# Altium schematic symbol library kmilo17pet-NSC_Amplifier.SchLib: 1665 symbols (part 22 of 44)
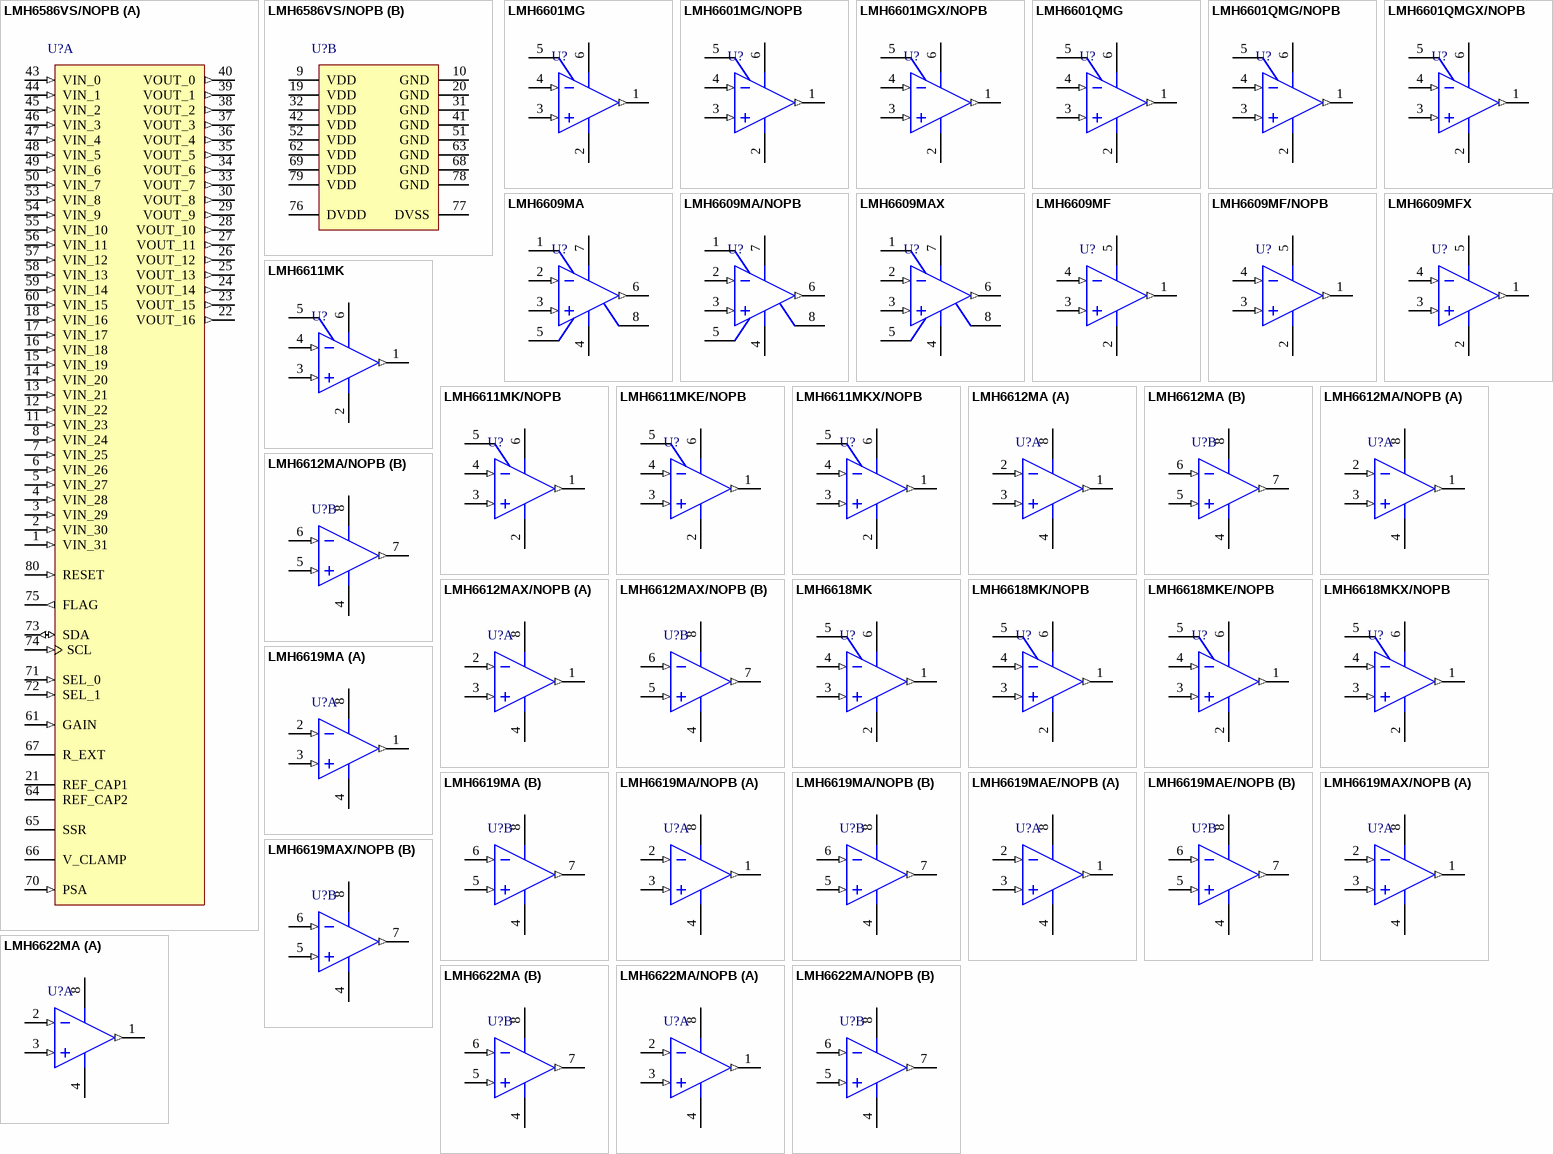
[diagram p105: symbols LMH6586VS/NOPB to LMH6622MA/NOPB]

## LMH6622MA/NOPB
designator U?
Dual Wideband, Low Noise, 160MHz, Operational Amplifiers, 8-pin Narrow SOIC, Pb-Free; PartNumber: LMH6622MA/NOPB; Manufacturer: National Semiconductor; PackageTopMarking: NSZXTT*LMH66*22MA; PowerWise: Y; DatasheetVersion: Jul-2005; PackageVersion: revM, May-2009; PackageReference: M08A; PackageDescription: SOIC Narrow, 4.9 x 3.9 x 1.45mm, 8 Lead, 1.27mm Pitch; RoHS: Y; PinCount: 8; CompType: Amplifiers; High-Reliability: Y; Code_JEDEC: MS-012-AA; Code_IPC: SOIC127P600-8; ComponentLink1Description: Manufacturer URL; ComponentLink1URL: http://www.national.com/; ComponentLink2Description: LMH6622 Datasheet; ComponentLink2URL: http://www.national.com/ds/LM/LMH6622.pdf; ComponentLink3Description: LMH6622 Web Page; ComponentLink3URL: http://www.national.com/pf/LM/LMH6622.html; ComponentLink4Description: M08A Package Page; ComponentLink4URL: http://www.national.com/packaging/folders/m08a.html
footprint M08A_N (SOIC, 8-Leads, Body 4.9x3.9mm, Pitch 1.27mm, IPC Medium Density)
footprint M08A_L (SOIC, 8-Leads, Body 4.9x3.9mm, Pitch 1.27mm, IPC High Density)
footprint M08A_M (SOIC, 8-Leads, Body 4.9x3.9mm, Pitch 1.27mm, IPC Low Density)
pins on every part: 4 V- (power), 8 V+ (power)
part A pins: 1 OUTA (out), 2 INA- (in), 3 INA+ (in)
part B pins: 5 INB+ (in), 6 INB- (in), 7 OUTB (out)

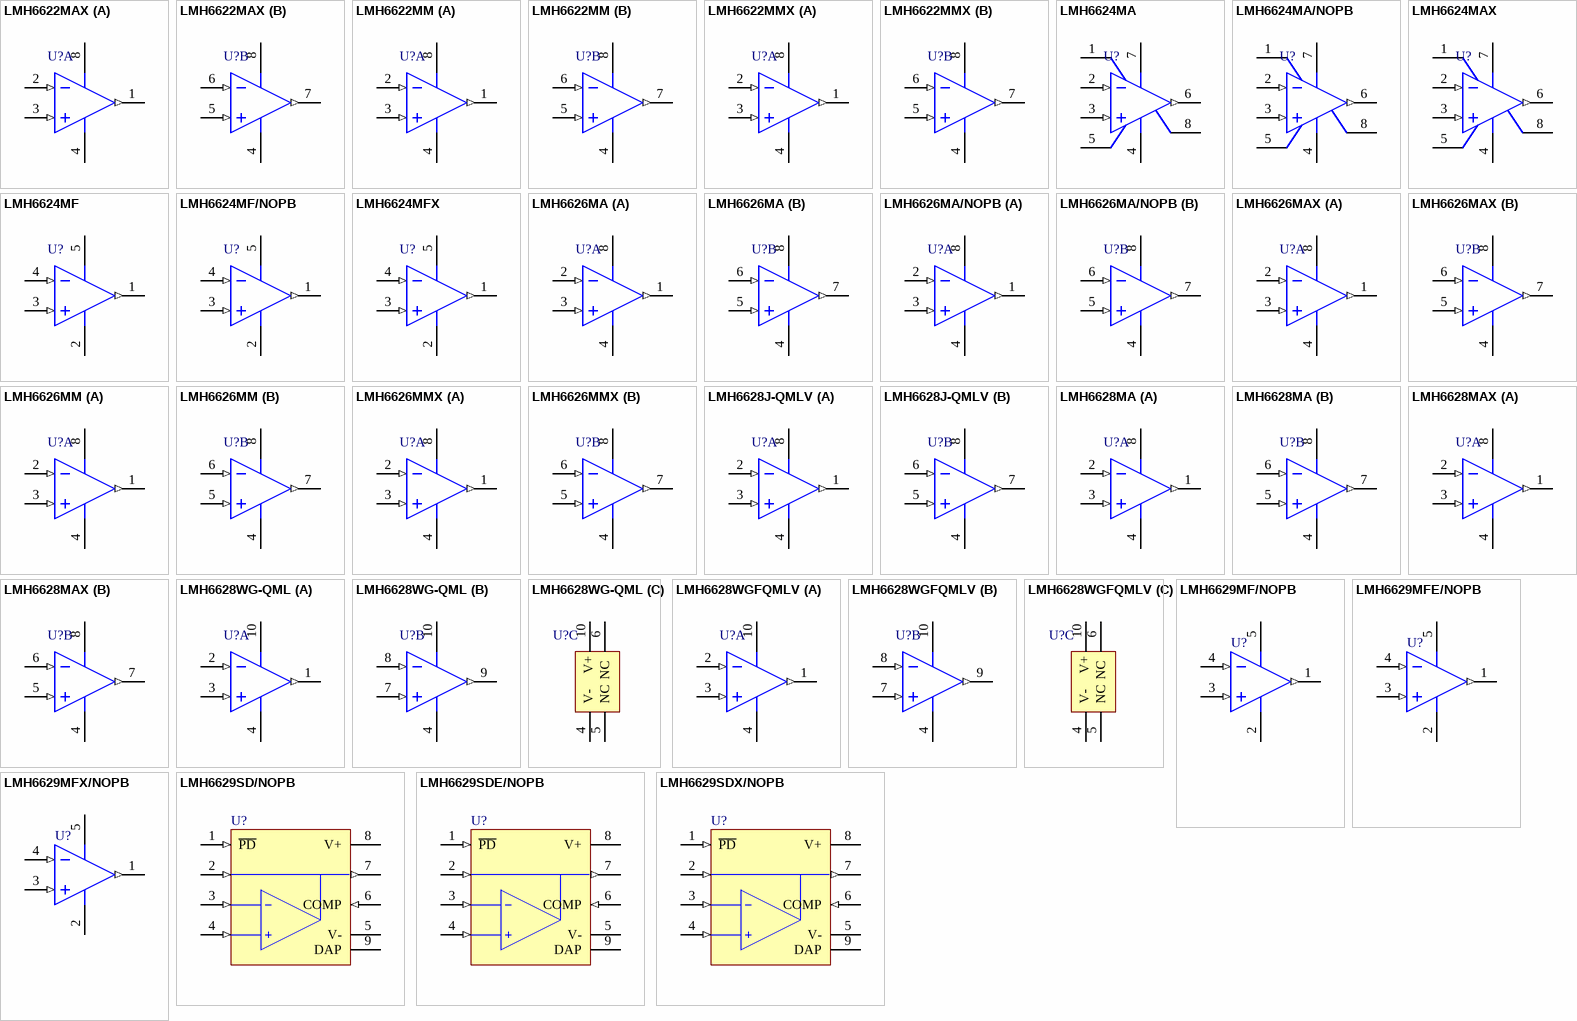
[diagram p45: symbols LMH6622MAX to LMH6629SDX/NOPB]

## LMH6622MAX
designator U?
Dual Wideband, Low Noise, 160MHz, Operational Amplifiers, 8-pin Narrow SOIC; PartNumber: LMH6622MAX; Manufacturer: National Semiconductor; PackageTopMarking: NSZXTT*LMH66*22MA; PowerWise: Y; DatasheetVersion: Jul-2005; PackageVersion: revM, May-2009; PackageReference: M08A; PackageDescription: SOIC Narrow, 4.9 x 3.9 x 1.45mm, 8 Lead, 1.27mm Pitch; RoHS: N; PinCount: 8; CompType: Amplifiers; High-Reliability: Y; Code_JEDEC: MS-012-AA; Code_IPC: SOIC127P600-8; ComponentLink1Description: Manufacturer URL; ComponentLink1URL: http://www.national.com/; ComponentLink2Description: LMH6622 Datasheet; ComponentLink2URL: http://www.national.com/ds/LM/LMH6622.pdf; ComponentLink3Description: LMH6622 Web Page; ComponentLink3URL: http://www.national.com/pf/LM/LMH6622.html; ComponentLink4Description: M08A Package Page; ComponentLink4URL: http://www.national.com/packaging/folders/m08a.html
footprint M08A_N (SOIC, 8-Leads, Body 4.9x3.9mm, Pitch 1.27mm, IPC Medium Density)
footprint M08A_L (SOIC, 8-Leads, Body 4.9x3.9mm, Pitch 1.27mm, IPC High Density)
footprint M08A_M (SOIC, 8-Leads, Body 4.9x3.9mm, Pitch 1.27mm, IPC Low Density)
pins on every part: 4 V- (power), 8 V+ (power)
part A pins: 1 OUTA (out), 2 INA- (in), 3 INA+ (in)
part B pins: 5 INB+ (in), 6 INB- (in), 7 OUTB (out)

## LMH6622MM
designator U?
Dual Wideband, Low Noise, 160MHz, Operational Amplifiers, 8-pin Mini SOIC; PartNumber: LMH6622MM; Manufacturer: National Semiconductor; PackageTopMarking: ZXTT*A80A; PowerWise: Y; DatasheetVersion: Jul-2005; PackageVersion: revF, Apr-2008; PackageReference: MUA08A; PackageDescription: MINI SOIC, .118 x .118 x .034in, 8 Lead, .0256in Pitch; RoHS: N; PinCount: 8; CompType: Amplifiers; High-Reliability: Y; Code_JEDEC: MO-187-AA; ComponentLink1Description: Manufacturer URL; ComponentLink1URL: http://www.national.com/; ComponentLink2Description: LMH6622 Datasheet; ComponentLink2URL: http://www.national.com/ds/LM/LMH6622.pdf; ComponentLink3Description: LMH6622 Web Page; ComponentLink3URL: http://www.national.com/pf/LM/LMH6622.html; ComponentLink4Description: MUA08A Package Page; ComponentLink4URL: http://www.national.com/packaging/folders/mua08a.html
footprint MUA08A_N (TSOP, 8-Leads, Body 3x3mm, Pitch 0.65mm, IPC Medium Density)
footprint MUA08A_L (TSOP, 8-Leads, Body 3x3mm, Pitch 0.65mm, IPC High Density)
footprint MUA08A_M (TSOP, 8-Leads, Body 3x3mm, Pitch 0.65mm, IPC Low Density)
pins on every part: 4 V- (power), 8 V+ (power)
part A pins: 1 OUTA (out), 2 INA- (in), 3 INA+ (in)
part B pins: 5 INB+ (in), 6 INB- (in), 7 OUTB (out)

## LMH6622MMX
designator U?
Dual Wideband, Low Noise, 160MHz, Operational Amplifiers, 8-pin Mini SOIC; PartNumber: LMH6622MMX; Manufacturer: National Semiconductor; PackageTopMarking: ZXTT*A80A; PowerWise: Y; DatasheetVersion: Jul-2005; PackageVersion: revF, Apr-2008; PackageReference: MUA08A; PackageDescription: MINI SOIC, .118 x .118 x .034in, 8 Lead, .0256in Pitch; RoHS: N; PinCount: 8; CompType: Amplifiers; High-Reliability: Y; Code_JEDEC: MO-187-AA; ComponentLink1Description: Manufacturer URL; ComponentLink1URL: http://www.national.com/; ComponentLink2Description: LMH6622 Datasheet; ComponentLink2URL: http://www.national.com/ds/LM/LMH6622.pdf; ComponentLink3Description: LMH6622 Web Page; ComponentLink3URL: http://www.national.com/pf/LM/LMH6622.html; ComponentLink4Description: MUA08A Package Page; ComponentLink4URL: http://www.national.com/packaging/folders/mua08a.html
footprint MUA08A_N (TSOP, 8-Leads, Body 3x3mm, Pitch 0.65mm, IPC Medium Density)
footprint MUA08A_L (TSOP, 8-Leads, Body 3x3mm, Pitch 0.65mm, IPC High Density)
footprint MUA08A_M (TSOP, 8-Leads, Body 3x3mm, Pitch 0.65mm, IPC Low Density)
pins on every part: 4 V- (power), 8 V+ (power)
part A pins: 1 OUTA (out), 2 INA- (in), 3 INA+ (in)
part B pins: 5 INB+ (in), 6 INB- (in), 7 OUTB (out)

## LMH6624MA
designator U?
Single Ultra Low Noise Wideband Operational Amplifier, 8-pin Narrow SOIC; PartNumber: LMH6624MA; Manufacturer: National Semiconductor; PackageTopMarking: NSZXTT*LMH66*24MA; PowerWise: Y; CompType: Amplifiers; DatasheetVersion: Sep-2005; PackageVersion: revM, May-2009; PackageReference: M08A; PackageDescription: SOIC Narrow, 4.9 x 3.9 x 1.45mm, 8 Lead, 1.27mm Pitch; RoHS: N; PinCount: 8; High-Reliability: Y; Code_JEDEC: MS-012-AA; Code_IPC: SOIC127P600-8; ComponentLink1Description: Manufacturer URL; ComponentLink1URL: http://www.national.com/; ComponentLink2Description: LMH6624 Datasheet; ComponentLink2URL: http://www.national.com/ds/LM/LMH6624.pdf; ComponentLink3Description: LMH6624 Web Page; ComponentLink3URL: http://www.national.com/pf/LM/LMH6624.html; ComponentLink4Description: M08A Package Page; ComponentLink4URL: http://www.national.com/packaging/folders/m08a.html
footprint M08A_N (SOIC, 8-Leads, Body 4.9x3.9mm, Pitch 1.27mm, IPC Medium Density)
footprint M08A_L (SOIC, 8-Leads, Body 4.9x3.9mm, Pitch 1.27mm, IPC High Density)
footprint M08A_M (SOIC, 8-Leads, Body 4.9x3.9mm, Pitch 1.27mm, IPC Low Density)
pins: 1 NC, 2 IN- (in), 3 IN+ (in), 4 V- (power), 5 NC, 6 OUT (out), 7 V+ (power), 8 NC

## LMH6624MA/NOPB
designator U?
Single/ Dual Ultra Low Noise Wideband Operational Amplifier, 8-pin Narrow SOIC, Pb-Free; PartNumber: LMH6624MA/NOPB; Manufacturer: National Semiconductor; PackageTopMarking: NSZXTT*LMH66*24MA; PowerWise: Y; CompType: Amplifiers; DatasheetVersion: Sep-2005; PackageVersion: revM, May-2009; PackageReference: M08A; PackageDescription: SOIC Narrow, 4.9 x 3.9 x 1.45mm, 8 Lead, 1.27mm Pitch; RoHS: Y; PinCount: 8; High-Reliability: Y; Code_JEDEC: MS-012-AA; Code_IPC: SOIC127P600-8; ComponentLink1Description: Manufacturer URL; ComponentLink1URL: http://www.national.com/; ComponentLink2Description: LMH6624 Datasheet; ComponentLink2URL: http://www.national.com/ds/LM/LMH6624.pdf; ComponentLink3Description: LMH6624 Web Page; ComponentLink3URL: http://www.national.com/pf/LM/LMH6624.html; ComponentLink4Description: M08A Package Page; ComponentLink4URL: http://www.national.com/packaging/folders/m08a.html
footprint M08A_N (SOIC, 8-Leads, Body 4.9x3.9mm, Pitch 1.27mm, IPC Medium Density)
footprint M08A_L (SOIC, 8-Leads, Body 4.9x3.9mm, Pitch 1.27mm, IPC High Density)
footprint M08A_M (SOIC, 8-Leads, Body 4.9x3.9mm, Pitch 1.27mm, IPC Low Density)
pins: 1 NC, 2 IN- (in), 3 IN+ (in), 4 V- (power), 5 NC, 6 OUT (out), 7 V+ (power), 8 NC

## LMH6624MAX
designator U?
Single/ Dual Ultra Low Noise Wideband Operational Amplifier, 8-pin Narrow SOIC; PartNumber: LMH6624MAX; Manufacturer: National Semiconductor; PackageTopMarking: NSZXTT*LMH66*24MA; PowerWise: Y; CompType: Amplifiers; DatasheetVersion: Sep-2005; PackageVersion: revM, May-2009; PackageReference: M08A; PackageDescription: SOIC Narrow, 4.9 x 3.9 x 1.45mm, 8 Lead, 1.27mm Pitch; RoHS: N; PinCount: 8; High-Reliability: Y; Code_JEDEC: MS-012-AA; Code_IPC: SOIC127P600-8; ComponentLink1Description: Manufacturer URL; ComponentLink1URL: http://www.national.com/; ComponentLink2Description: LMH6624 Datasheet; ComponentLink2URL: http://www.national.com/ds/LM/LMH6624.pdf; ComponentLink3Description: LMH6624 Web Page; ComponentLink3URL: http://www.national.com/pf/LM/LMH6624.html; ComponentLink4Description: M08A Package Page; ComponentLink4URL: http://www.national.com/packaging/folders/m08a.html
footprint M08A_N (SOIC, 8-Leads, Body 4.9x3.9mm, Pitch 1.27mm, IPC Medium Density)
footprint M08A_L (SOIC, 8-Leads, Body 4.9x3.9mm, Pitch 1.27mm, IPC High Density)
footprint M08A_M (SOIC, 8-Leads, Body 4.9x3.9mm, Pitch 1.27mm, IPC Low Density)
pins: 1 NC, 2 IN- (in), 3 IN+ (in), 4 V- (power), 5 NC, 6 OUT (out), 7 V+ (power), 8 NC

## LMH6624MF
designator U?
Single Ultra Low Noise Wideband Operational Amplifier, 5-pin SOT-23; PartNumber: LMH6624MF; Manufacturer: National Semiconductor; PackageTopMarking: A94A*XTT; PowerWise: Y; CompType: Amplifiers; DatasheetVersion: Sep-2005; PackageVersion: revD, Aug-2008; PackageReference: MF05A; PackageDescription: Molded SOT-23, .115 x .063 x .040 in Body, 5 Lead, .0375 in Pitch; RoHS: N; PinCount: 5; High-Reliability: Y; ComponentLink1Description: Manufacturer URL; ComponentLink1URL: http://www.national.com/; ComponentLink2Description: LMH6624 Datasheet; ComponentLink2URL: http://www.national.com/ds/LM/LMH6624.pdf; ComponentLink3Description: LMH6624 Web Page; ComponentLink3URL: http://www.national.com/pf/LM/LMH6624.html; ComponentLink4Description: MF05A Package Page; ComponentLink4URL: http://www.national.com/packaging/folders/mf05a.html
footprint MF05A_N (SOT23, 5-Leads, Body 2.9x1.6mm, Pitch 0.95mm, Lead Span 2.8mm, IPC Medium Density)
footprint MF05A_L (SOT23, 5-Leads, Body 2.9x1.6mm, Pitch 0.95mm, Lead Span 2.8mm, IPC High Density)
footprint MF05A_M (SOT23, 5-Leads, Body 2.9x1.6mm, Pitch 0.95mm, Lead Span 2.8mm, IPC Low Density)
pins: 1 OUT (out), 2 V- (power), 3 IN+ (in), 4 IN- (in), 5 V+ (power)

## LMH6624MF/NOPB
designator U?
Single/ Dual Ultra Low Noise Wideband Operational Amplifier, 5-pin SOT-23, Pb-Free; PartNumber: LMH6624MF/NOPB; Manufacturer: National Semiconductor; PackageTopMarking: A94A*XTT; PowerWise: Y; CompType: Amplifiers; DatasheetVersion: Sep-2005; PackageVersion: revD, Aug-2008; PackageReference: MF05A; PackageDescription: Molded SOT-23, .115 x .063 x .040 in Body, 5 Lead, .0375 in Pitch; RoHS: Y; PinCount: 5; High-Reliability: Y; ComponentLink1Description: Manufacturer URL; ComponentLink1URL: http://www.national.com/; ComponentLink2Description: LMH6624 Datasheet; ComponentLink2URL: http://www.national.com/ds/LM/LMH6624.pdf; ComponentLink3Description: LMH6624 Web Page; ComponentLink3URL: http://www.national.com/pf/LM/LMH6624.html; ComponentLink4Description: MF05A Package Page; ComponentLink4URL: http://www.national.com/packaging/folders/mf05a.html
footprint MF05A_N (SOT23, 5-Leads, Body 2.9x1.6mm, Pitch 0.95mm, Lead Span 2.8mm, IPC Medium Density)
footprint MF05A_L (SOT23, 5-Leads, Body 2.9x1.6mm, Pitch 0.95mm, Lead Span 2.8mm, IPC High Density)
footprint MF05A_M (SOT23, 5-Leads, Body 2.9x1.6mm, Pitch 0.95mm, Lead Span 2.8mm, IPC Low Density)
pins: 1 OUT (out), 2 V- (power), 3 IN+ (in), 4 IN- (in), 5 V+ (power)

## LMH6624MFX
designator U?
Single/ Dual Ultra Low Noise Wideband Operational Amplifier, 5-pin SOT-23; PartNumber: LMH6624MFX; Manufacturer: National Semiconductor; PackageTopMarking: A94A*XTT; PowerWise: Y; CompType: Amplifiers; DatasheetVersion: Sep-2005; PackageVersion: revD, Aug-2008; PackageReference: MF05A; PackageDescription: Molded SOT-23, .115 x .063 x .040 in Body, 5 Lead, .0375 in Pitch; RoHS: N; PinCount: 5; High-Reliability: Y; ComponentLink1Description: Manufacturer URL; ComponentLink1URL: http://www.national.com/; ComponentLink2Description: LMH6624 Datasheet; ComponentLink2URL: http://www.national.com/ds/LM/LMH6624.pdf; ComponentLink3Description: LMH6624 Web Page; ComponentLink3URL: http://www.national.com/pf/LM/LMH6624.html; ComponentLink4Description: MF05A Package Page; ComponentLink4URL: http://www.national.com/packaging/folders/mf05a.html
footprint MF05A_N (SOT23, 5-Leads, Body 2.9x1.6mm, Pitch 0.95mm, Lead Span 2.8mm, IPC Medium Density)
footprint MF05A_L (SOT23, 5-Leads, Body 2.9x1.6mm, Pitch 0.95mm, Lead Span 2.8mm, IPC High Density)
footprint MF05A_M (SOT23, 5-Leads, Body 2.9x1.6mm, Pitch 0.95mm, Lead Span 2.8mm, IPC Low Density)
pins: 1 OUT (out), 2 V- (power), 3 IN+ (in), 4 IN- (in), 5 V+ (power)

## LMH6626MA
designator U?
Dual Ultra Low Noise Wideband Operational Amplifier, 8-pin Narrow SOIC; PartNumber: LMH6626MA; Manufacturer: National Semiconductor; PackageTopMarking: NSZXTT*LMH66*26MA; PowerWise: Y; CompType: Amplifiers; DatasheetVersion: Sep-2005; PackageVersion: revM, May-2009; PackageReference: M08A; PackageDescription: SOIC Narrow, 4.9 x 3.9 x 1.45mm, 8 Lead, 1.27mm Pitch; RoHS: N; PinCount: 8; High-Reliability: Y; Code_JEDEC: MS-012-AA; Code_IPC: SOIC127P600-8; ComponentLink1Description: Manufacturer URL; ComponentLink1URL: http://www.national.com/; ComponentLink2Description: LMH6626 Datasheet; ComponentLink2URL: http://www.national.com/ds/LM/LMH6626.pdf; ComponentLink3Description: LMH6626 Web Page; ComponentLink3URL: http://www.national.com/pf/LM/LMH6626.html; ComponentLink4Description: M08A Package Page; ComponentLink4URL: http://www.national.com/packaging/folders/m08a.html
footprint M08A_N (SOIC, 8-Leads, Body 4.9x3.9mm, Pitch 1.27mm, IPC Medium Density)
footprint M08A_L (SOIC, 8-Leads, Body 4.9x3.9mm, Pitch 1.27mm, IPC High Density)
footprint M08A_M (SOIC, 8-Leads, Body 4.9x3.9mm, Pitch 1.27mm, IPC Low Density)
pins on every part: 4 V- (power), 8 V+ (power)
part A pins: 1 OUTA (out), 2 INA- (in), 3 INA+ (in)
part B pins: 5 INB+ (in), 6 INB- (in), 7 OUTB (out)

## LMH6626MA/NOPB
designator U?
Single/ Dual Ultra Low Noise Wideband Operational Amplifier, 8-pin Narrow SOIC, Pb-Free; PartNumber: LMH6626MA/NOPB; Manufacturer: National Semiconductor; PackageTopMarking: NSZXTT*LMH66*26MA; PowerWise: Y; CompType: Amplifiers; DatasheetVersion: Sep-2005; PackageVersion: revM, May-2009; PackageReference: M08A; PackageDescription: SOIC Narrow, 4.9 x 3.9 x 1.45mm, 8 Lead, 1.27mm Pitch; RoHS: Y; PinCount: 8; High-Reliability: Y; Code_JEDEC: MS-012-AA; Code_IPC: SOIC127P600-8; ComponentLink1Description: Manufacturer URL; ComponentLink1URL: http://www.national.com/; ComponentLink2Description: LMH6626 Datasheet; ComponentLink2URL: http://www.national.com/ds/LM/LMH6626.pdf; ComponentLink3Description: LMH6626 Web Page; ComponentLink3URL: http://www.national.com/pf/LM/LMH6626.html; ComponentLink4Description: M08A Package Page; ComponentLink4URL: http://www.national.com/packaging/folders/m08a.html
footprint M08A_N (SOIC, 8-Leads, Body 4.9x3.9mm, Pitch 1.27mm, IPC Medium Density)
footprint M08A_L (SOIC, 8-Leads, Body 4.9x3.9mm, Pitch 1.27mm, IPC High Density)
footprint M08A_M (SOIC, 8-Leads, Body 4.9x3.9mm, Pitch 1.27mm, IPC Low Density)
pins on every part: 4 V- (power), 8 V+ (power)
part A pins: 1 OUTA (out), 2 INA- (in), 3 INA+ (in)
part B pins: 5 INB+ (in), 6 INB- (in), 7 OUTB (out)

## LMH6626MAX
designator U?
Single/ Dual Ultra Low Noise Wideband Operational Amplifier, 8-pin Narrow SOIC; PartNumber: LMH6626MAX; Manufacturer: National Semiconductor; PackageTopMarking: NSZXTT*LMH66*26MA; PowerWise: Y; CompType: Amplifiers; DatasheetVersion: Sep-2005; PackageVersion: revM, May-2009; PackageReference: M08A; PackageDescription: SOIC Narrow, 4.9 x 3.9 x 1.45mm, 8 Lead, 1.27mm Pitch; RoHS: N; PinCount: 8; High-Reliability: Y; Code_JEDEC: MS-012-AA; Code_IPC: SOIC127P600-8; ComponentLink1Description: Manufacturer URL; ComponentLink1URL: http://www.national.com/; ComponentLink2Description: LMH6626 Datasheet; ComponentLink2URL: http://www.national.com/ds/LM/LMH6626.pdf; ComponentLink3Description: LMH6626 Web Page; ComponentLink3URL: http://www.national.com/pf/LM/LMH6626.html; ComponentLink4Description: M08A Package Page; ComponentLink4URL: http://www.national.com/packaging/folders/m08a.html
footprint M08A_N (SOIC, 8-Leads, Body 4.9x3.9mm, Pitch 1.27mm, IPC Medium Density)
footprint M08A_L (SOIC, 8-Leads, Body 4.9x3.9mm, Pitch 1.27mm, IPC High Density)
footprint M08A_M (SOIC, 8-Leads, Body 4.9x3.9mm, Pitch 1.27mm, IPC Low Density)
pins on every part: 4 V- (power), 8 V+ (power)
part A pins: 1 OUTA (out), 2 INA- (in), 3 INA+ (in)
part B pins: 5 INB+ (in), 6 INB- (in), 7 OUTB (out)

## LMH6626MM
designator U?
Dual Ultra Low Noise Wideband Operational Amplifier, 8-pin Mini SOIC; PartNumber: LMH6626MM; Manufacturer: National Semiconductor; PackageTopMarking: ZXTT*A98A; PowerWise: Y; CompType: Amplifiers; DatasheetVersion: Sep-2005; PackageVersion: revF, Apr-2008; PackageReference: MUA08A; PackageDescription: MINI SOIC, .118 x .118 x .034in, 8 Lead, .0256in Pitch; RoHS: N; PinCount: 8; High-Reliability: Y; Code_JEDEC: MO-187-AA; ComponentLink1Description: Manufacturer URL; ComponentLink1URL: http://www.national.com/; ComponentLink2Description: LMH6626 Datasheet; ComponentLink2URL: http://www.national.com/ds/LM/LMH6626.pdf; ComponentLink3Description: LMH6626 Web Page; ComponentLink3URL: http://www.national.com/pf/LM/LMH6626.html; ComponentLink4Description: MUA08A Package Page; ComponentLink4URL: http://www.national.com/packaging/folders/mua08a.html
footprint MUA08A_N (TSOP, 8-Leads, Body 3x3mm, Pitch 0.65mm, IPC Medium Density)
footprint MUA08A_L (TSOP, 8-Leads, Body 3x3mm, Pitch 0.65mm, IPC High Density)
footprint MUA08A_M (TSOP, 8-Leads, Body 3x3mm, Pitch 0.65mm, IPC Low Density)
pins on every part: 4 V- (power), 8 V+ (power)
part A pins: 1 OUTA (out), 2 INA- (in), 3 INA+ (in)
part B pins: 5 INB+ (in), 6 INB- (in), 7 OUTB (out)

## LMH6626MMX
designator U?
Single/ Dual Ultra Low Noise Wideband Operational Amplifier, 8-pin Mini SOIC; PartNumber: LMH6626MMX; Manufacturer: National Semiconductor; PackageTopMarking: ZXTT*A98A; PowerWise: Y; CompType: Amplifiers; DatasheetVersion: Sep-2005; PackageVersion: revF, Apr-2008; PackageReference: MUA08A; PackageDescription: MINI SOIC, .118 x .118 x .034in, 8 Lead, .0256in Pitch; RoHS: N; PinCount: 8; High-Reliability: Y; Code_JEDEC: MO-187-AA; ComponentLink1Description: Manufacturer URL; ComponentLink1URL: http://www.national.com/; ComponentLink2Description: LMH6626 Datasheet; ComponentLink2URL: http://www.national.com/ds/LM/LMH6626.pdf; ComponentLink3Description: LMH6626 Web Page; ComponentLink3URL: http://www.national.com/pf/LM/LMH6626.html; ComponentLink4Description: MUA08A Package Page; ComponentLink4URL: http://www.national.com/packaging/folders/mua08a.html
footprint MUA08A_N (TSOP, 8-Leads, Body 3x3mm, Pitch 0.65mm, IPC Medium Density)
footprint MUA08A_L (TSOP, 8-Leads, Body 3x3mm, Pitch 0.65mm, IPC High Density)
footprint MUA08A_M (TSOP, 8-Leads, Body 3x3mm, Pitch 0.65mm, IPC Low Density)
pins on every part: 4 V- (power), 8 V+ (power)
part A pins: 1 OUTA (out), 2 INA- (in), 3 INA+ (in)
part B pins: 5 INB+ (in), 6 INB- (in), 7 OUTB (out)

## LMH6628J-QMLV
designator U?
Dual Wideband, Low Noise, Voltage Feedback Op Amp, 8-pin CerDIP; PartNumber: LMH6628J-QMLV; Manufacturer: National Semiconductor; PackageTopMarking: NSZSSXXYYA*LMH6628J-*QV Q 5962-*0254501VPA; PowerWise: Y; CompType: Amplifiers; DatasheetVersion: May-2005; PackageVersion: revM, Jul-2002; PackageReference: J08A; PackageDescription: Cerdip, .400 x .310in Body, 8 Lead, .300in Centers, .100in Pitch; RoHS: N; PinCount: 8; High-Reliability: Y; ComponentLink1Description: Manufacturer URL; ComponentLink1URL: http://www.national.com/; ComponentLink2Description: LMH6628 Datasheet; ComponentLink2URL: http://www.national.com/ds/LM/LMH6628.pdf; ComponentLink3Description: LMH6628 Web Page; ComponentLink3URL: http://www.national.com/pf/LM/LMH6628.html; ComponentLink4Description: J08A Package Page; ComponentLink4URL: http://www.national.com/packaging/folders/j08a.html
footprint J08A (DIP, 8-Leads, Row Spacing 7.62mm, Pitch 2.54mm, Body 9.78x6.73mm)
pins on every part: 4 V- (power), 8 V+ (power)
part A pins: 1 OUT1 (out), 2 IN1- (in), 3 IN1+ (in)
part B pins: 5 IN2+ (in), 6 IN2- (in), 7 OUT2 (out)

## LMH6628MA
designator U?
Dual Wideband, Low Noise, Voltage Feedback Op Amp, 8-pin Narrow SOIC; PartNumber: LMH6628MA; Manufacturer: National Semiconductor; PackageTopMarking: NSZXTT*LMH66*28MA; PowerWise: Y; CompType: Amplifiers; DatasheetVersion: May-2005; PackageVersion: revM, May-2009; PackageReference: M08A; PackageDescription: SOIC Narrow, 4.9 x 3.9 x 1.45mm, 8 Lead, 1.27mm Pitch; RoHS: N; PinCount: 8; High-Reliability: Y; Code_JEDEC: MS-012-AA; Code_IPC: SOIC127P600-8; ComponentLink1Description: Manufacturer URL; ComponentLink1URL: http://www.national.com/; ComponentLink2Description: LMH6628 Datasheet; ComponentLink2URL: http://www.national.com/ds/LM/LMH6628.pdf; ComponentLink3Description: LMH6628 Web Page; ComponentLink3URL: http://www.national.com/pf/LM/LMH6628.html; ComponentLink4Description: M08A Package Page; ComponentLink4URL: http://www.national.com/packaging/folders/m08a.html
footprint M08A_N (SOIC, 8-Leads, Body 4.9x3.9mm, Pitch 1.27mm, IPC Medium Density)
footprint M08A_L (SOIC, 8-Leads, Body 4.9x3.9mm, Pitch 1.27mm, IPC High Density)
footprint M08A_M (SOIC, 8-Leads, Body 4.9x3.9mm, Pitch 1.27mm, IPC Low Density)
pins on every part: 4 V- (power), 8 V+ (power)
part A pins: 1 OUT1 (out), 2 IN1- (in), 3 IN1+ (in)
part B pins: 5 IN2+ (in), 6 IN2- (in), 7 OUT2 (out)

## LMH6628MAX
designator U?
Dual Wideband, Low Noise, Voltage Feedback Op Amp, 8-pin Narrow SOIC; PartNumber: LMH6628MAX; Manufacturer: National Semiconductor; PackageTopMarking: NSZXTT*LMH66*28MA; PowerWise: Y; CompType: Amplifiers; DatasheetVersion: May-2005; PackageVersion: revM, May-2009; PackageReference: M08A; PackageDescription: SOIC Narrow, 4.9 x 3.9 x 1.45mm, 8 Lead, 1.27mm Pitch; RoHS: N; PinCount: 8; High-Reliability: Y; Code_JEDEC: MS-012-AA; Code_IPC: SOIC127P600-8; ComponentLink1Description: Manufacturer URL; ComponentLink1URL: http://www.national.com/; ComponentLink2Description: LMH6628 Datasheet; ComponentLink2URL: http://www.national.com/ds/LM/LMH6628.pdf; ComponentLink3Description: LMH6628 Web Page; ComponentLink3URL: http://www.national.com/pf/LM/LMH6628.html; ComponentLink4Description: M08A Package Page; ComponentLink4URL: http://www.national.com/packaging/folders/m08a.html
footprint M08A_N (SOIC, 8-Leads, Body 4.9x3.9mm, Pitch 1.27mm, IPC Medium Density)
footprint M08A_L (SOIC, 8-Leads, Body 4.9x3.9mm, Pitch 1.27mm, IPC High Density)
footprint M08A_M (SOIC, 8-Leads, Body 4.9x3.9mm, Pitch 1.27mm, IPC Low Density)
pins on every part: 4 V- (power), 8 V+ (power)
part A pins: 1 OUT1 (out), 2 IN1- (in), 3 IN1+ (in)
part B pins: 5 IN2+ (in), 6 IN2- (in), 7 OUT2 (out)

## LMH6628WG-QML
designator U?
Dual Wideband, Low Noise, Voltage Feedback Op Amp, 10-pin CerPACK; PartNumber: LMH6628WG-QML; Manufacturer: National Semiconductor; PackageTopMarking: NS5962-02*54501MZA*LMH6628*WG-QML Q*ZSSXXYYA; PowerWise: Y; CompType: Amplifiers; DatasheetVersion: May-2005; PackageVersion: revF, Oct-2008; PackageReference: WG10A; PackageDescription: Cerpack, .270 x .241 x .070in, 10 Lead, .050in Pitch, Gull Wing; RoHS: N; PinCount: 10; High-Reliability: Y; ComponentLink1Description: Manufacturer URL; ComponentLink1URL: http://www.national.com/; ComponentLink2Description: LMH6628 Datasheet; ComponentLink2URL: http://www.national.com/ds/LM/LMH6628QML.pdf; ComponentLink3Description: LMH6628 Web Page; ComponentLink3URL: http://www.national.com/pf/LM/LMH6628.html; ComponentLink4Description: WG10A Package Page; ComponentLink4URL: http://www.national.com/packaging/folders/wg10a.html
footprint WG10A_N (CERPACK, 10-Leads, Body 6.9x6.3mm, Pitch 1.27mm, IPC Medium Density)
footprint WG10A_L (CERPACK, 10-Leads, Body 6.9x6.3mm, Pitch 1.27mm, IPC High Density)
footprint WG10A_M (CERPACK, 10-Leads, Body 6.9x6.3mm, Pitch 1.27mm, IPC Low Density)
pins on every part: 4 V- (power), 10 V+ (power)
part A pins: 1 OUTA (out), 2 INA- (in), 3 INA+ (in)
part B pins: 7 INB+ (in), 8 INB- (in), 9 OUTB (out)
part C pins: 5 NC, 6 NC

## LMH6628WGFQMLV
designator U?
Dual Wideband, Low Noise, Voltage Feedback Op Amp, 10-pin CerPACK; PartNumber: LMH6628WGFQMLV; Manufacturer: National Semiconductor; PackageTopMarking: NS5962F02*54501VZA*LMH6628*WGFQV Q*ZSSXXYYA; PowerWise: Y; CompType: Amplifiers; DatasheetVersion: May-2005; PackageVersion: revF, Oct-2008; PackageReference: WG10A; PackageDescription: Cerpack, .270 x .241 x .070in, 10 Lead, .050in Pitch, Gull Wing; RoHS: N; PinCount: 10; High-Reliability: Y; ComponentLink1Description: Manufacturer URL; ComponentLink1URL: http://www.national.com/; ComponentLink2Description: LMH6628 Datasheet; ComponentLink2URL: http://www.national.com/ds/LM/LMH6628QML.pdf; ComponentLink3Description: LMH6628 Web Page; ComponentLink3URL: http://www.national.com/pf/LM/LMH6628.html; ComponentLink4Description: WG10A Package Page; ComponentLink4URL: http://www.national.com/packaging/folders/wg10a.html
footprint WG10A_N (CERPACK, 10-Leads, Body 6.9x6.3mm, Pitch 1.27mm, IPC Medium Density)
footprint WG10A_L (CERPACK, 10-Leads, Body 6.9x6.3mm, Pitch 1.27mm, IPC High Density)
footprint WG10A_M (CERPACK, 10-Leads, Body 6.9x6.3mm, Pitch 1.27mm, IPC Low Density)
pins on every part: 4 V- (power), 10 V+ (power)
part A pins: 1 OUTA (out), 2 INA- (in), 3 INA+ (in)
part B pins: 7 INB+ (in), 8 INB- (in), 9 OUTB (out)
part C pins: 5 NC, 6 NC

## LMH6629MF/NOPB
designator U?
Ultra-Low Noise, High-Speed Operational Amplifier with Shutdown, 5-pin SOT-23, 1000 Reel; PartNumber: LMH6629MF/NOPB; Manufacturer: National Semiconductor; PackageTopMarking: AE7A*XTT; PowerWise: Y; CompType: Amplifiers; DatasheetVersion: Nov-2010; PackageVersion: revD, Aug-2008; PackageReference: MF05A; PackageDescription: Molded SOT-23, .115 x .063 x .040 in Body, 5 Lead, .0375 in Pitch; RoHS: Y; PinCount: 5; High-Reliability: Y; ComponentLink1Description: Manufacturer URL; ComponentLink1URL: http://www.national.com/; ComponentLink2Description: LMH6629 Datasheet; ComponentLink2URL: http://www.national.com/ds/LM/LMH6629.pdf; ComponentLink3Description: LMH6629 Web Page; ComponentLink3URL: http://www.national.com/pf/LM/LMH6629.html; ComponentLink4Description: MF05A Package Page; ComponentLink4URL: http://www.national.com/packaging/folders/mf05a.html
footprint MF05A_N (SOT23, 5-Leads, Body 2.9x1.6mm, Pitch 0.95mm, Lead Span 2.8mm, IPC Medium Density)
footprint MF05A_L (SOT23, 5-Leads, Body 2.9x1.6mm, Pitch 0.95mm, Lead Span 2.8mm, IPC High Density)
footprint MF05A_M (SOT23, 5-Leads, Body 2.9x1.6mm, Pitch 0.95mm, Lead Span 2.8mm, IPC Low Density)
pins: 1 OUT (out), 2 V- (power), 3 IN+ (in), 4 IN- (in), 5 V+ (power)

## LMH6629MFE/NOPB
designator U?
Ultra-Low Noise, High-Speed Operational Amplifier with Shutdown, 5-pin SOT-23, 250 Reel; PartNumber: LMH6629MFE/NOPB; Manufacturer: National Semiconductor; PackageTopMarking: AE7A*XTT; PowerWise: Y; CompType: Amplifiers; DatasheetVersion: Nov-2010; PackageVersion: revD, Aug-2008; PackageReference: MF05A; PackageDescription: Molded SOT-23, .115 x .063 x .040 in Body, 5 Lead, .0375 in Pitch; RoHS: Y; PinCount: 5; High-Reliability: Y; ComponentLink1Description: Manufacturer URL; ComponentLink1URL: http://www.national.com/; ComponentLink2Description: LMH6629 Datasheet; ComponentLink2URL: http://www.national.com/ds/LM/LMH6629.pdf; ComponentLink3Description: LMH6629 Web Page; ComponentLink3URL: http://www.national.com/pf/LM/LMH6629.html; ComponentLink4Description: MF05A Package Page; ComponentLink4URL: http://www.national.com/packaging/folders/mf05a.html
footprint MF05A_N (SOT23, 5-Leads, Body 2.9x1.6mm, Pitch 0.95mm, Lead Span 2.8mm, IPC Medium Density)
footprint MF05A_L (SOT23, 5-Leads, Body 2.9x1.6mm, Pitch 0.95mm, Lead Span 2.8mm, IPC High Density)
footprint MF05A_M (SOT23, 5-Leads, Body 2.9x1.6mm, Pitch 0.95mm, Lead Span 2.8mm, IPC Low Density)
pins: 1 OUT (out), 2 V- (power), 3 IN+ (in), 4 IN- (in), 5 V+ (power)

## LMH6629MFX/NOPB
designator U?
Ultra-Low Noise, High-Speed Operational Amplifier with Shutdown, 5-pin SOT-23, 3000 Reel; PartNumber: LMH6629MFX/NOPB; Manufacturer: National Semiconductor; PackageTopMarking: AE7A*XTT; PowerWise: Y; CompType: Amplifiers; DatasheetVersion: Nov-2010; PackageVersion: revD, Aug-2008; PackageReference: MF05A; PackageDescription: Molded SOT-23, .115 x .063 x .040 in Body, 5 Lead, .0375 in Pitch; RoHS: Y; PinCount: 5; High-Reliability: Y; ComponentLink1Description: Manufacturer URL; ComponentLink1URL: http://www.national.com/; ComponentLink2Description: LMH6629 Datasheet; ComponentLink2URL: http://www.national.com/ds/LM/LMH6629.pdf; ComponentLink3Description: LMH6629 Web Page; ComponentLink3URL: http://www.national.com/pf/LM/LMH6629.html; ComponentLink4Description: MF05A Package Page; ComponentLink4URL: http://www.national.com/packaging/folders/mf05a.html
footprint MF05A_N (SOT23, 5-Leads, Body 2.9x1.6mm, Pitch 0.95mm, Lead Span 2.8mm, IPC Medium Density)
footprint MF05A_L (SOT23, 5-Leads, Body 2.9x1.6mm, Pitch 0.95mm, Lead Span 2.8mm, IPC High Density)
footprint MF05A_M (SOT23, 5-Leads, Body 2.9x1.6mm, Pitch 0.95mm, Lead Span 2.8mm, IPC Low Density)
pins: 1 OUT (out), 2 V- (power), 3 IN+ (in), 4 IN- (in), 5 V+ (power)

## LMH6629SD/NOPB
designator U?
Ultra-Low Noise, High Speed Operational Amplifier, 8 pin LLP; PartNumber: LMH6629SD/NOPB; Manufacturer: National Semiconductor; PackageTopMarking: ZXYTT*L6629; PowerWise: Y; CompType: Amplifiers; DatasheetVersion: Nov-2010; PackageVersion: revA, Aug-2003; PackageReference: SDA08A; PackageDescription: LLP, Plastic, Dual, 3 x 3 x 0.8mm Body, 8 Lead, 0.5mm Pitch, No Pullback; RoHS: Y; PinCount: 8; High-Reliability: Y; ComponentLink1Description: Manufacturer URL; ComponentLink1URL: http://www.national.com/; ComponentLink2Description: LMH6629 Datasheet; ComponentLink2URL: http://www.national.com/ds/LM/LMH6629.pdf; ComponentLink3Description: LMH6629 Web Page; ComponentLink3URL: http://www.national.com/pf/LM/LMH6629.html; ComponentLink4Description: SDA08A Package Page; ComponentLink4URL: http://www.national.com/packaging/folders/sda08a.html
footprint SDA08A (SON, 8-Leads, Body 3x3mm, Pitch 0.5mm, NSC Recommended)
pins: 1 ~{PD} (in), 2 FB (in), 3 IN- (in), 4 IN+ (in), 5 V- (power), 6 COMP (in), 7 OUT (out), 8 V+ (power), 9 DAP (power)

## LMH6629SDE/NOPB
designator U?
Ultra-Low Noise, High Speed Operational Amplifier, 8 pin LLP; PartNumber: LMH6629SDE/NOPB; Manufacturer: National Semiconductor; PackageTopMarking: ZXYTT*L6629; PowerWise: Y; CompType: Amplifiers; DatasheetVersion: Nov-2010; PackageVersion: revA, Aug-2003; PackageReference: SDA08A; PackageDescription: LLP, Plastic, Dual, 3 x 3 x 0.8mm Body, 8 Lead, 0.5mm Pitch, No Pullback; RoHS: Y; PinCount: 8; High-Reliability: Y; ComponentLink1Description: Manufacturer URL; ComponentLink1URL: http://www.national.com/; ComponentLink2Description: LMH6629 Datasheet; ComponentLink2URL: http://www.national.com/ds/LM/LMH6629.pdf; ComponentLink3Description: LMH6629 Web Page; ComponentLink3URL: http://www.national.com/pf/LM/LMH6629.html; ComponentLink4Description: SDA08A Package Page; ComponentLink4URL: http://www.national.com/packaging/folders/sda08a.html
footprint SDA08A (SON, 8-Leads, Body 3x3mm, Pitch 0.5mm, NSC Recommended)
pins: 1 ~{PD} (in), 2 FB (in), 3 IN- (in), 4 IN+ (in), 5 V- (power), 6 COMP (in), 7 OUT (out), 8 V+ (power), 9 DAP (power)

## LMH6629SDX/NOPB
designator U?
Ultra-Low Noise, High Speed Operational Amplifier, 8 pin LLP; PartNumber: LMH6629SDX/NOPB; Manufacturer: National Semiconductor; PackageTopMarking: ZXYTT*L6629; PowerWise: Y; CompType: Amplifiers; DatasheetVersion: Nov-2010; PackageVersion: revA, Aug-2003; PackageReference: SDA08A; PackageDescription: LLP, Plastic, Dual, 3 x 3 x 0.8mm Body, 8 Lead, 0.5mm Pitch, No Pullback; RoHS: Y; PinCount: 8; High-Reliability: Y; ComponentLink1Description: Manufacturer URL; ComponentLink1URL: http://www.national.com/; ComponentLink2Description: LMH6629 Datasheet; ComponentLink2URL: http://www.national.com/ds/LM/LMH6629.pdf; ComponentLink3Description: LMH6629 Web Page; ComponentLink3URL: http://www.national.com/pf/LM/LMH6629.html; ComponentLink4Description: SDA08A Package Page; ComponentLink4URL: http://www.national.com/packaging/folders/sda08a.html
footprint SDA08A (SON, 8-Leads, Body 3x3mm, Pitch 0.5mm, NSC Recommended)
pins: 1 ~{PD} (in), 2 FB (in), 3 IN- (in), 4 IN+ (in), 5 V- (power), 6 COMP (in), 7 OUT (out), 8 V+ (power), 9 DAP (power)

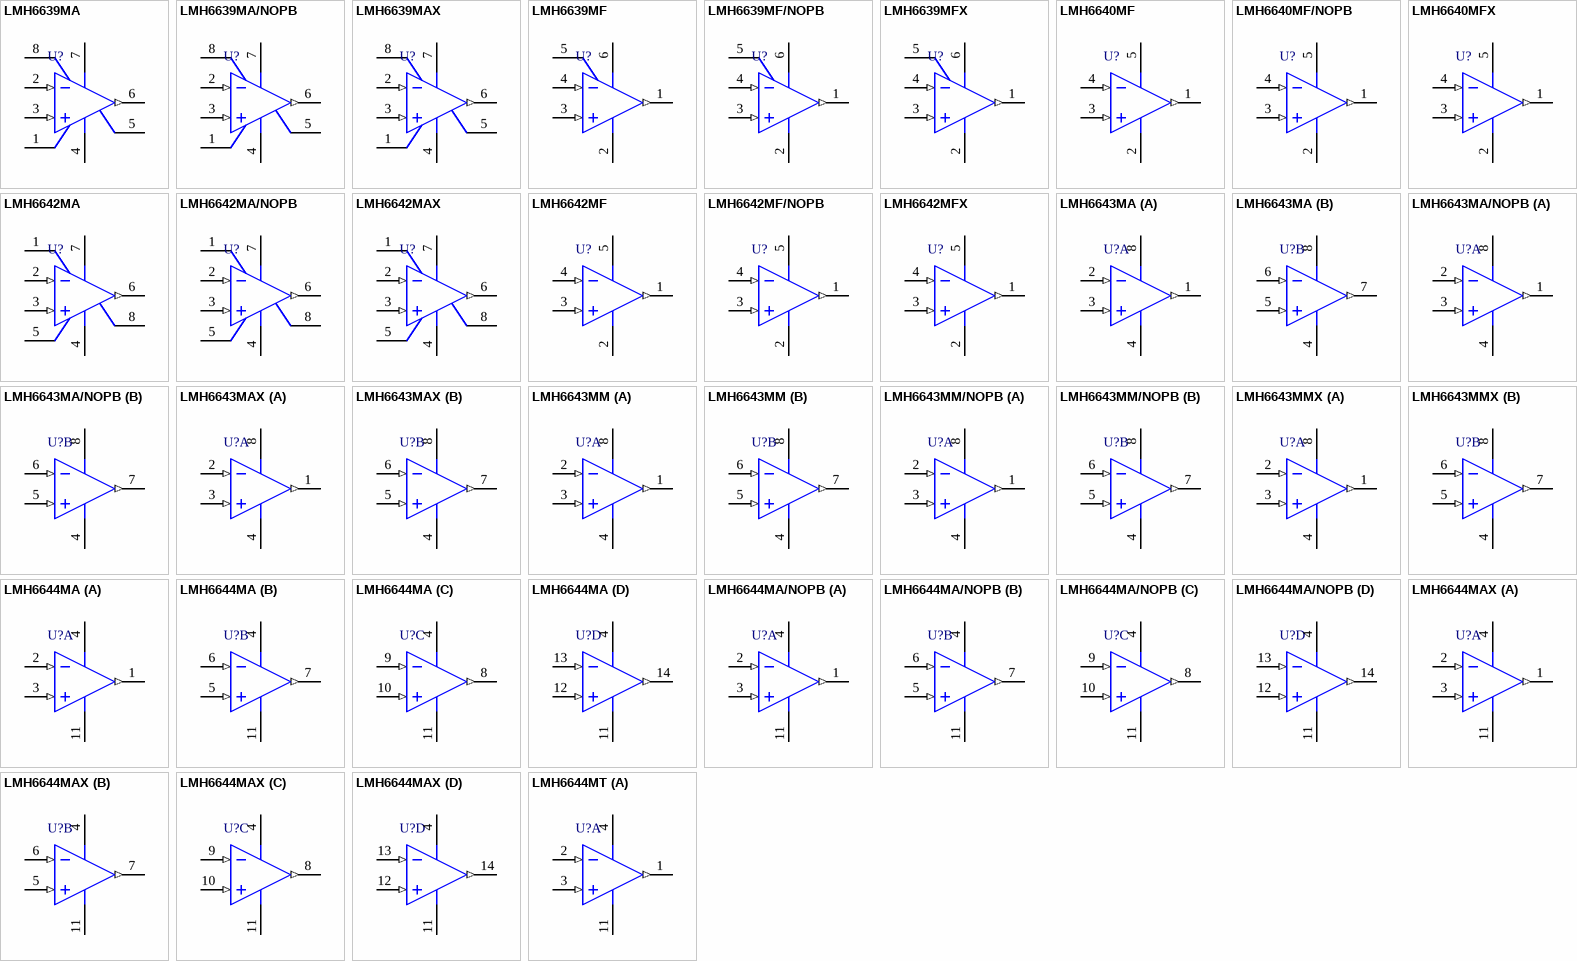
[diagram p46: symbols LMH6639MA to LMH6644MT]

## LMH6639MA
designator U?
190MHz Rail-to-Rail Output Amplifier with Disable, 8-pin Narrow SOIC; PartNumber: LMH6639MA; Manufacturer: National Semiconductor; PackageTopMarking: NSZXTT*LMH66*39MA; PowerWise: Y; CompType: Amplifiers; DatasheetVersion: Dec-2004; PackageVersion: revM, May-2009; PackageReference: M08A; PackageDescription: SOIC Narrow, 4.9 x 3.9 x 1.45mm, 8 Lead, 1.27mm Pitch; RoHS: N; PinCount: 8; High-Reliability: Y; Code_JEDEC: MS-012-AA; Code_IPC: SOIC127P600-8; ComponentLink1Description: Manufacturer URL; ComponentLink1URL: http://www.national.com/; ComponentLink2Description: LMH6639 Datasheet; ComponentLink2URL: http://www.national.com/ds/LM/LMH6639.pdf; ComponentLink3Description: LMH6639 Web Page; ComponentLink3URL: http://www.national.com/pf/LM/LMH6639.html; ComponentLink4Description: M08A Package Page; ComponentLink4URL: http://www.national.com/packaging/folders/m08a.html
footprint M08A_N (SOIC, 8-Leads, Body 4.9x3.9mm, Pitch 1.27mm, IPC Medium Density)
footprint M08A_L (SOIC, 8-Leads, Body 4.9x3.9mm, Pitch 1.27mm, IPC High Density)
footprint M08A_M (SOIC, 8-Leads, Body 4.9x3.9mm, Pitch 1.27mm, IPC Low Density)
pins: 1 NC, 2 IN- (in), 3 IN+ (in), 4 V- (power), 5 NC, 6 OUT (out), 7 V+ (power), 8 ~{SD}

## LMH6639MA/NOPB
designator U?
190MHz Rail-to-Rail Output Amplifier with Disable, 8-pin Narrow SOIC, Pb-Free; PartNumber: LMH6639MA/NOPB; Manufacturer: National Semiconductor; PackageTopMarking: NSZXTT*LMH66*39MA; PowerWise: Y; CompType: Amplifiers; DatasheetVersion: Dec-2004; PackageVersion: revM, May-2009; PackageReference: M08A; PackageDescription: SOIC Narrow, 4.9 x 3.9 x 1.45mm, 8 Lead, 1.27mm Pitch; RoHS: Y; PinCount: 8; High-Reliability: Y; Code_JEDEC: MS-012-AA; Code_IPC: SOIC127P600-8; ComponentLink1Description: Manufacturer URL; ComponentLink1URL: http://www.national.com/; ComponentLink2Description: LMH6639 Datasheet; ComponentLink2URL: http://www.national.com/ds/LM/LMH6639.pdf; ComponentLink3Description: LMH6639 Web Page; ComponentLink3URL: http://www.national.com/pf/LM/LMH6639.html; ComponentLink4Description: M08A Package Page; ComponentLink4URL: http://www.national.com/packaging/folders/m08a.html
footprint M08A_N (SOIC, 8-Leads, Body 4.9x3.9mm, Pitch 1.27mm, IPC Medium Density)
footprint M08A_L (SOIC, 8-Leads, Body 4.9x3.9mm, Pitch 1.27mm, IPC High Density)
footprint M08A_M (SOIC, 8-Leads, Body 4.9x3.9mm, Pitch 1.27mm, IPC Low Density)
pins: 1 NC, 2 IN- (in), 3 IN+ (in), 4 V- (power), 5 NC, 6 OUT (out), 7 V+ (power), 8 ~{SD}

## LMH6639MAX
designator U?
190MHz Rail-to-Rail Output Amplifier with Disable, 8-pin Narrow SOIC; PartNumber: LMH6639MAX; Manufacturer: National Semiconductor; PackageTopMarking: NSZXTT*LMH66*39MA; PowerWise: Y; CompType: Amplifiers; DatasheetVersion: Dec-2004; PackageVersion: revM, May-2009; PackageReference: M08A; PackageDescription: SOIC Narrow, 4.9 x 3.9 x 1.45mm, 8 Lead, 1.27mm Pitch; RoHS: N; PinCount: 8; High-Reliability: Y; Code_JEDEC: MS-012-AA; Code_IPC: SOIC127P600-8; ComponentLink1Description: Manufacturer URL; ComponentLink1URL: http://www.national.com/; ComponentLink2Description: LMH6639 Datasheet; ComponentLink2URL: http://www.national.com/ds/LM/LMH6639.pdf; ComponentLink3Description: LMH6639 Web Page; ComponentLink3URL: http://www.national.com/pf/LM/LMH6639.html; ComponentLink4Description: M08A Package Page; ComponentLink4URL: http://www.national.com/packaging/folders/m08a.html
footprint M08A_N (SOIC, 8-Leads, Body 4.9x3.9mm, Pitch 1.27mm, IPC Medium Density)
footprint M08A_L (SOIC, 8-Leads, Body 4.9x3.9mm, Pitch 1.27mm, IPC High Density)
footprint M08A_M (SOIC, 8-Leads, Body 4.9x3.9mm, Pitch 1.27mm, IPC Low Density)
pins: 1 NC, 2 IN- (in), 3 IN+ (in), 4 V- (power), 5 NC, 6 OUT (out), 7 V+ (power), 8 ~{SD}

## LMH6639MF
designator U?
190MHz Rail-to-Rail Output Amplifier with Disable, 6-pin SOT-23; PartNumber: LMH6639MF; Manufacturer: National Semiconductor; PackageTopMarking: A81A*XTT; PowerWise: Y; CompType: Amplifiers; DatasheetVersion: Dec-2004; PackageVersion: revC, Sep-2005; PackageReference: MF06A; PackageDescription: Molded SOT-23, .115 x .063 x .040in Body, 6 Lead, .0375in in Pitch; RoHS: N; PinCount: 6; High-Reliability: Y; Code_JEDEC: MO-178-AB; Code_IPC: SOT26A-6; ComponentLink1Description: Manufacturer URL; ComponentLink1URL: http://www.national.com/; ComponentLink2Description: LMH6639 Datasheet; ComponentLink2URL: http://www.national.com/ds/LM/LMH6639.pdf; ComponentLink3Description: LMH6639 Web Page; ComponentLink3URL: http://www.national.com/pf/LM/LMH6639.html; ComponentLink4Description: MF06A Package Page; ComponentLink4URL: http://www.national.com/packaging/folders/mf06a.html
footprint MF06A_N (SOT23, 6-Leads, Body 2.9x1.6mm, Pitch 0.95mm, Lead Span 2.8mm, IPC Medium Density)
footprint MF06A_L (SOT23, 6-Leads, Body 2.9x1.6mm, Pitch 0.95mm, Lead Span 2.8mm, IPC High Density)
footprint MF06A_M (SOT23, 6-Leads, Body 2.9x1.6mm, Pitch 0.95mm, Lead Span 2.8mm, IPC Low Density)
pins: 1 OUT (out), 2 V- (power), 3 IN+ (in), 4 IN- (in), 5 ~{SD}, 6 V+ (power)

## LMH6639MF/NOPB
designator U?
190MHz Rail-to-Rail Output Amplifier with Disable, 6-pin SOT-23, Pb-Free; PartNumber: LMH6639MF/NOPB; Manufacturer: National Semiconductor; PackageTopMarking: A81A*XTT; PowerWise: Y; CompType: Amplifiers; DatasheetVersion: Dec-2004; PackageVersion: revC, Sep-2005; PackageReference: MF06A; PackageDescription: Molded SOT-23, .115 x .063 x .040in Body, 6 Lead, .0375in in Pitch; RoHS: Y; PinCount: 6; High-Reliability: Y; Code_JEDEC: MO-178-AB; Code_IPC: SOT26A-6; ComponentLink1Description: Manufacturer URL; ComponentLink1URL: http://www.national.com/; ComponentLink2Description: LMH6639 Datasheet; ComponentLink2URL: http://www.national.com/ds/LM/LMH6639.pdf; ComponentLink3Description: LMH6639 Web Page; ComponentLink3URL: http://www.national.com/pf/LM/LMH6639.html; ComponentLink4Description: MF06A Package Page; ComponentLink4URL: http://www.national.com/packaging/folders/mf06a.html
footprint MF06A_N (SOT23, 6-Leads, Body 2.9x1.6mm, Pitch 0.95mm, Lead Span 2.8mm, IPC Medium Density)
footprint MF06A_L (SOT23, 6-Leads, Body 2.9x1.6mm, Pitch 0.95mm, Lead Span 2.8mm, IPC High Density)
footprint MF06A_M (SOT23, 6-Leads, Body 2.9x1.6mm, Pitch 0.95mm, Lead Span 2.8mm, IPC Low Density)
pins: 1 OUT (out), 2 V- (power), 3 IN+ (in), 4 IN- (in), 5 ~{SD}, 6 V+ (power)

## LMH6639MFX
designator U?
190MHz Rail-to-Rail Output Amplifier with Disable, 6-pin SOT-23; PartNumber: LMH6639MFX; Manufacturer: National Semiconductor; PackageTopMarking: A81A*XTT; PowerWise: Y; CompType: Amplifiers; DatasheetVersion: Dec-2004; PackageVersion: revC, Sep-2005; PackageReference: MF06A; PackageDescription: Molded SOT-23, .115 x .063 x .040in Body, 6 Lead, .0375in in Pitch; RoHS: N; PinCount: 6; High-Reliability: Y; Code_JEDEC: MO-178-AB; Code_IPC: SOT26A-6; ComponentLink1Description: Manufacturer URL; ComponentLink1URL: http://www.national.com/; ComponentLink2Description: LMH6639 Datasheet; ComponentLink2URL: http://www.national.com/ds/LM/LMH6639.pdf; ComponentLink3Description: LMH6639 Web Page; ComponentLink3URL: http://www.national.com/pf/LM/LMH6639.html; ComponentLink4Description: MF06A Package Page; ComponentLink4URL: http://www.national.com/packaging/folders/mf06a.html
footprint MF06A_N (SOT23, 6-Leads, Body 2.9x1.6mm, Pitch 0.95mm, Lead Span 2.8mm, IPC Medium Density)
footprint MF06A_L (SOT23, 6-Leads, Body 2.9x1.6mm, Pitch 0.95mm, Lead Span 2.8mm, IPC High Density)
footprint MF06A_M (SOT23, 6-Leads, Body 2.9x1.6mm, Pitch 0.95mm, Lead Span 2.8mm, IPC Low Density)
pins: 1 OUT (out), 2 V- (power), 3 IN+ (in), 4 IN- (in), 5 ~{SD}, 6 V+ (power)

## LMH6640MF
designator U?
TFT-LCD Single, 16V, Rail-to-Rail High Output Operational Amplifier, 5-pin SOT-23; PartNumber: LMH6640MF; Manufacturer: National Semiconductor; PackageTopMarking: AH1A*XTT; PowerWise: N; CompType: Amplifiers; High-Reliability: Y; DatasheetVersion: Nov-2004; PackageVersion: revD, Aug-2008; PackageReference: MF05A; PackageDescription: Molded SOT-23, .115 x .063 x .040 in Body, 5 Lead, .0375 in Pitch; RoHS: N; PinCount: 5; ComponentLink1Description: Manufacturer URL; ComponentLink1URL: http://www.national.com/; ComponentLink2Description: LMH6640 Datasheet; ComponentLink2URL: http://www.national.com/ds/LM/LMH6640.pdf; ComponentLink3Description: LMH6640 Web Page; ComponentLink3URL: http://www.national.com/pf/LM/LMH6640.html; ComponentLink4Description: MF05A Package Page; ComponentLink4URL: http://www.national.com/packaging/folders/mf05a.html
footprint MF05A_N (SOT23, 5-Leads, Body 2.9x1.6mm, Pitch 0.95mm, Lead Span 2.8mm, IPC Medium Density)
footprint MF05A_L (SOT23, 5-Leads, Body 2.9x1.6mm, Pitch 0.95mm, Lead Span 2.8mm, IPC High Density)
footprint MF05A_M (SOT23, 5-Leads, Body 2.9x1.6mm, Pitch 0.95mm, Lead Span 2.8mm, IPC Low Density)
pins: 1 OUT (out), 2 V- (power), 3 IN+ (in), 4 IN- (in), 5 V+ (power)

## LMH6640MF/NOPB
designator U?
TFT-LCD Single, 16V, Rail-to-Rail High Output Operational Amplifier, 5-pin SOT-23, Pb-Free; PartNumber: LMH6640MF/NOPB; Manufacturer: National Semiconductor; PackageTopMarking: AH1A*XTT; PowerWise: N; CompType: Amplifiers; High-Reliability: Y; DatasheetVersion: Nov-2004; PackageVersion: revD, Aug-2008; PackageReference: MF05A; PackageDescription: Molded SOT-23, .115 x .063 x .040 in Body, 5 Lead, .0375 in Pitch; RoHS: Y; PinCount: 5; ComponentLink1Description: Manufacturer URL; ComponentLink1URL: http://www.national.com/; ComponentLink2Description: LMH6640 Datasheet; ComponentLink2URL: http://www.national.com/ds/LM/LMH6640.pdf; ComponentLink3Description: LMH6640 Web Page; ComponentLink3URL: http://www.national.com/pf/LM/LMH6640.html; ComponentLink4Description: MF05A Package Page; ComponentLink4URL: http://www.national.com/packaging/folders/mf05a.html
footprint MF05A_N (SOT23, 5-Leads, Body 2.9x1.6mm, Pitch 0.95mm, Lead Span 2.8mm, IPC Medium Density)
footprint MF05A_L (SOT23, 5-Leads, Body 2.9x1.6mm, Pitch 0.95mm, Lead Span 2.8mm, IPC High Density)
footprint MF05A_M (SOT23, 5-Leads, Body 2.9x1.6mm, Pitch 0.95mm, Lead Span 2.8mm, IPC Low Density)
pins: 1 OUT (out), 2 V- (power), 3 IN+ (in), 4 IN- (in), 5 V+ (power)

## LMH6640MFX
designator U?
TFT-LCD Single, 16V, Rail-to-Rail High Output Operational Amplifier, 5-pin SOT-23; PartNumber: LMH6640MFX; Manufacturer: National Semiconductor; PackageTopMarking: AH1A*XTT; PowerWise: N; CompType: Amplifiers; High-Reliability: Y; DatasheetVersion: Nov-2004; PackageVersion: revD, Aug-2008; PackageReference: MF05A; PackageDescription: Molded SOT-23, .115 x .063 x .040 in Body, 5 Lead, .0375 in Pitch; RoHS: N; PinCount: 5; ComponentLink1Description: Manufacturer URL; ComponentLink1URL: http://www.national.com/; ComponentLink2Description: LMH6640 Datasheet; ComponentLink2URL: http://www.national.com/ds/LM/LMH6640.pdf; ComponentLink3Description: LMH6640 Web Page; ComponentLink3URL: http://www.national.com/pf/LM/LMH6640.html; ComponentLink4Description: MF05A Package Page; ComponentLink4URL: http://www.national.com/packaging/folders/mf05a.html
footprint MF05A_N (SOT23, 5-Leads, Body 2.9x1.6mm, Pitch 0.95mm, Lead Span 2.8mm, IPC Medium Density)
footprint MF05A_L (SOT23, 5-Leads, Body 2.9x1.6mm, Pitch 0.95mm, Lead Span 2.8mm, IPC High Density)
footprint MF05A_M (SOT23, 5-Leads, Body 2.9x1.6mm, Pitch 0.95mm, Lead Span 2.8mm, IPC Low Density)
pins: 1 OUT (out), 2 V- (power), 3 IN+ (in), 4 IN- (in), 5 V+ (power)

## LMH6642MA
designator U?
Low Power, 130MHz, 75mA Rail-to-Rail Output Amplifier, 8-pin Narrow SOIC; PartNumber: LMH6642MA; Manufacturer: National Semiconductor; PackageTopMarking: NSZXTT*LMH66*42MA; PowerWise: Y; CompType: Amplifiers; DatasheetVersion: Nov-2009; PackageVersion: revM, May-2009; PackageReference: M08A; PackageDescription: SOIC Narrow, 4.9 x 3.9 x 1.45mm, 8 Lead, 1.27mm Pitch; RoHS: N; PinCount: 8; High-Reliability: Y; Code_JEDEC: MS-012-AA; Code_IPC: SOIC127P600-8; ComponentLink1Description: Manufacturer URL; ComponentLink1URL: http://www.national.com/; ComponentLink2Description: LMH6642 Datasheet; ComponentLink2URL: http://www.national.com/ds/LM/LMH6642.pdf; ComponentLink3Description: LMH6642 Web Page; ComponentLink3URL: http://www.national.com/pf/LM/LMH6642.html; ComponentLink4Description: M08A Package Page; ComponentLink4URL: http://www.national.com/packaging/folders/m08a.html
footprint M08A_N (SOIC, 8-Leads, Body 4.9x3.9mm, Pitch 1.27mm, IPC Medium Density)
footprint M08A_L (SOIC, 8-Leads, Body 4.9x3.9mm, Pitch 1.27mm, IPC High Density)
footprint M08A_M (SOIC, 8-Leads, Body 4.9x3.9mm, Pitch 1.27mm, IPC Low Density)
pins: 1 NC, 2 IN- (in), 3 IN+ (in), 4 V- (power), 5 NC, 6 OUT (out), 7 V+ (power), 8 NC

## LMH6642MA/NOPB
designator U?
Low Power, 130MHz, 75mA Rail-to-Rail Output Amplifiers, 8-pin Narrow SOIC, Pb-Free; PartNumber: LMH6642MA/NOPB; Manufacturer: National Semiconductor; PackageTopMarking: NSZXTT*LMH66*42MA; PowerWise: Y; DatasheetVersion: Nov-2009; PackageVersion: revM, May-2009; PackageReference: M08A; PackageDescription: SOIC Narrow, 4.9 x 3.9 x 1.45mm, 8 Lead, 1.27mm Pitch; RoHS: Y; PinCount: 8; CompType: Amplifiers; High-Reliability: Y; Code_JEDEC: MS-012-AA; Code_IPC: SOIC127P600-8; ComponentLink1Description: Manufacturer URL; ComponentLink1URL: http://www.national.com/; ComponentLink2Description: LMH6642 Datasheet; ComponentLink2URL: http://www.national.com/ds/LM/LMH6642.pdf; ComponentLink3Description: LMH6642 Web Page; ComponentLink3URL: http://www.national.com/pf/LM/LMH6642.html; ComponentLink4Description: M08A Package Page; ComponentLink4URL: http://www.national.com/packaging/folders/m08a.html
footprint M08A_N (SOIC, 8-Leads, Body 4.9x3.9mm, Pitch 1.27mm, IPC Medium Density)
footprint M08A_L (SOIC, 8-Leads, Body 4.9x3.9mm, Pitch 1.27mm, IPC High Density)
footprint M08A_M (SOIC, 8-Leads, Body 4.9x3.9mm, Pitch 1.27mm, IPC Low Density)
pins: 1 NC, 2 IN- (in), 3 IN+ (in), 4 V- (power), 5 NC, 6 OUT (out), 7 V+ (power), 8 NC

## LMH6642MAX
designator U?
Low Power, 130MHz, 75mA Rail-to-Rail Output Amplifiers, 8-pin Narrow SOIC; PartNumber: LMH6642MAX; Manufacturer: National Semiconductor; PackageTopMarking: NSZXTT*LMH66*42MA; PowerWise: Y; DatasheetVersion: Nov-2009; PackageVersion: revM, May-2009; PackageReference: M08A; PackageDescription: SOIC Narrow, 4.9 x 3.9 x 1.45mm, 8 Lead, 1.27mm Pitch; RoHS: N; PinCount: 8; CompType: Amplifiers; High-Reliability: Y; Code_JEDEC: MS-012-AA; Code_IPC: SOIC127P600-8; ComponentLink1Description: Manufacturer URL; ComponentLink1URL: http://www.national.com/; ComponentLink2Description: LMH6642 Datasheet; ComponentLink2URL: http://www.national.com/ds/LM/LMH6642.pdf; ComponentLink3Description: LMH6642 Web Page; ComponentLink3URL: http://www.national.com/pf/LM/LMH6642.html; ComponentLink4Description: M08A Package Page; ComponentLink4URL: http://www.national.com/packaging/folders/m08a.html
footprint M08A_N (SOIC, 8-Leads, Body 4.9x3.9mm, Pitch 1.27mm, IPC Medium Density)
footprint M08A_L (SOIC, 8-Leads, Body 4.9x3.9mm, Pitch 1.27mm, IPC High Density)
footprint M08A_M (SOIC, 8-Leads, Body 4.9x3.9mm, Pitch 1.27mm, IPC Low Density)
pins: 1 NC, 2 IN- (in), 3 IN+ (in), 4 V- (power), 5 NC, 6 OUT (out), 7 V+ (power), 8 NC

## LMH6642MF
designator U?
Low Power, 130MHz, 75mA Rail-to-Rail Output Amplifier, 5-pin SOT-23; PartNumber: LMH6642MF; Manufacturer: National Semiconductor; PackageTopMarking: A64A*XTT; PowerWise: Y; CompType: Amplifiers; DatasheetVersion: Nov-2009; PackageVersion: revD, Aug-2008; PackageReference: MF05A; PackageDescription: Molded SOT-23, .115 x .063 x .040 in Body, 5 Lead, .0375 in Pitch; RoHS: N; PinCount: 5; High-Reliability: Y; ComponentLink1Description: Manufacturer URL; ComponentLink1URL: http://www.national.com/; ComponentLink2Description: LMH6642 Datasheet; ComponentLink2URL: http://www.national.com/ds/LM/LMH6642.pdf; ComponentLink3Description: LMH6642 Web Page; ComponentLink3URL: http://www.national.com/pf/LM/LMH6642.html; ComponentLink4Description: MF05A Package Page; ComponentLink4URL: http://www.national.com/packaging/folders/mf05a.html
footprint MF05A_N (SOT23, 5-Leads, Body 2.9x1.6mm, Pitch 0.95mm, Lead Span 2.8mm, IPC Medium Density)
footprint MF05A_L (SOT23, 5-Leads, Body 2.9x1.6mm, Pitch 0.95mm, Lead Span 2.8mm, IPC High Density)
footprint MF05A_M (SOT23, 5-Leads, Body 2.9x1.6mm, Pitch 0.95mm, Lead Span 2.8mm, IPC Low Density)
pins: 1 OUT (out), 2 V- (power), 3 IN+ (in), 4 IN- (in), 5 V+ (power)